# Altium footprint library MC_LENS_LEDIL_LISA.PcbLib: 1 footprints
Each footprint in its own frame and in the unit in brackets; x right, y up, seen from the top. Pads: shape width x height; smd on the part's side, far side on the other; paste and mask are expansions set on the pad; w line width, h text height; cw(c..) or ccw(c..) is an arc to the next point about the centre after c.
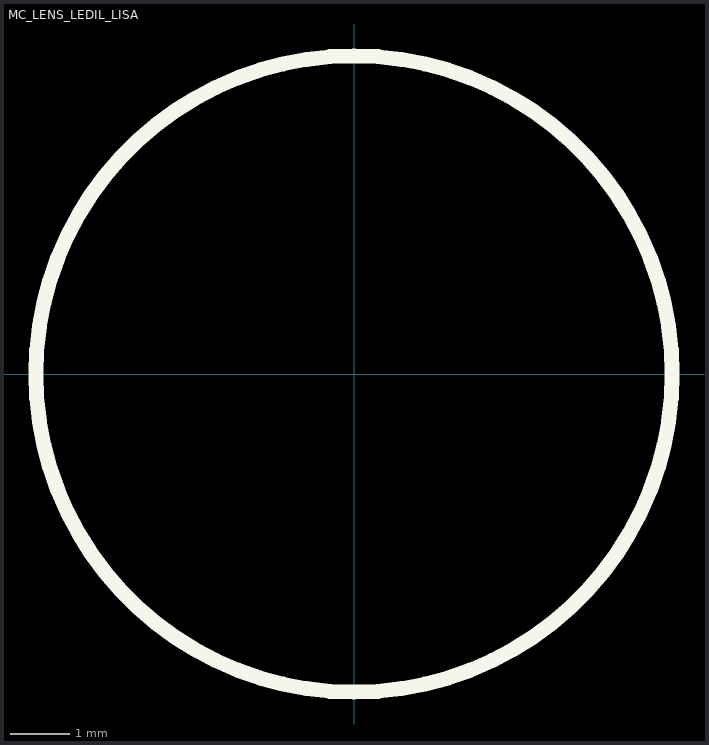
[diagram p0: the footprint, top view; thin cyan lines are the x and y axes]

## MC_LENS_LEDIL_LISA [mm]
Top Overlay:
  circle w0.254: c0,0 r5.4
3D body: height 7.3, standoff 0, extent -5.357,-5.389 5.4,5.39